# Altium footprint library Bootcamp_Footprint_Library.PcbLib: 20 footprints (part 2 of 2)
Each footprint in its own frame and in the unit in brackets; x right, y up, seen from the top. Pads: shape width x height; smd on the part's side, far side on the other; paste and mask are expansions set on the pad; w line width, h text height; cw(c..) or ccw(c..) is an arc to the next point about the centre after c.
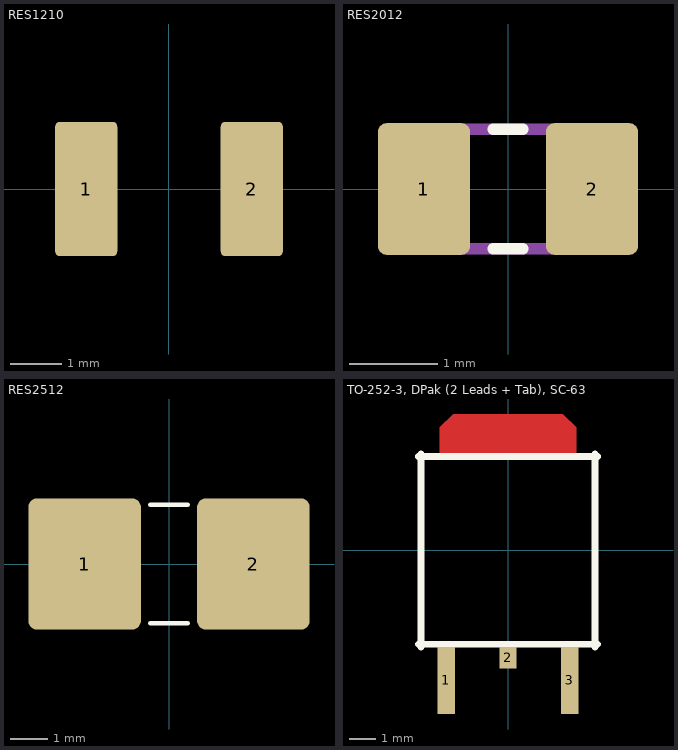
[diagram p1: the footprints below, top view; thin cyan lines are the x and y axes]

## RES1210 [mm] "Chip Resistor, Body 3.20x2.50mm"
pads (2):
  rrect15% 1.2x2.6 smd: 1(-1.6,0) 2(1.6,0)
Mechanical 9:
  text ".Designator" at -2.253,-0.226 h1
3D body "User Library-R_1210.sldprt": height 0.6, standoff 0, extent -1.6,-1.25 1.6,1.25

## RES2012 [mm]
pads (2):
  rrect20% 1.05x1.5 smd: 1(-0.955,0) 2(0.955,0)
Top Overlay:
  lines w0.127: -0.17,-0.68 0.17,-0.68 ; -0.17,0.68 0.17,0.68
Mechanical 4:
  lines w0.127: -1.05,-0.68 -1.05,0.68 ; -1.05,-0.68 1.05,-0.68 ; -1.05,-0.68 -1.05,0.68 ; -1.05,-0.68 1.05,-0.68 ; -1.05,0.68 1.05,0.68 ; -1.05,0.68 1.05,0.68 ; 1.05,-0.68 1.05,0.68 ; 1.05,-0.68 1.05,0.68
3D body "0805 resistor.STEP": height 0.6, standoff 0, extent -1,-0.625 1,0.625

## RES2512 [mm]
pads (2):
  rrect15% 3x3.5 smd: 1(-2.25,0) 2(2.25,0)
Top Overlay:
  lines w0.127: -0.5,-1.58 0.5,-1.58 ; -0.5,1.58 0.5,1.58
Mechanical 9:
  text ".Designator" at -3.379,-0.339 h1.5
3D body "R SMD 2512.STEP": height 0.82, standoff 0.22, extent -3.131,-1.575 3.169,1.575

## TO-252-3, DPak (2 Leads + Tab), SC-63 [mm]
pads (4):
  rect 0.65x2.5 smd mask+0.05: 1(-2.3,-4.85) 3(2.3,-4.85)
  rect 0.65x0.8 smd mask+0.05: 2(0,-4)
  round 0.025 smd mask+0.05: FIN(0,4.35)
Top Layer:
  region: -2.55,3.588 -2.55,4.588 -2.05,5.088 2.05,5.088 2.55,4.588 2.55,3.588
Top Overlay:
  lines w0.254: -3.35,-3.5 3.35,-3.5 ; -3.35,3.5 3.35,3.5 ; -3.25,-3.6 -3.25,3.6 ; 3.25,-3.6 3.25,3.6
Mechanical 1:
  lines w0.2: -3.25,-3.5 -3.25,3.5 3.25,3.5 3.25,-3.5 -3.25,-3.5
3D body "to252-3_p4-56_l6-54_w6-04.stp": height 2.29, standoff -0.01, extent -3.27,-5.52 3.27,4.148